# Altium footprint library DF636P396DSA.PcbLib: 1 footprints
Each footprint in its own frame and in the unit in brackets; x right, y up, seen from the top. Pads: shape width x height; smd on the part's side, far side on the other; paste and mask are expansions set on the pad; w line width, h text height; cw(c..) or ccw(c..) is an arc to the next point about the centre after c.
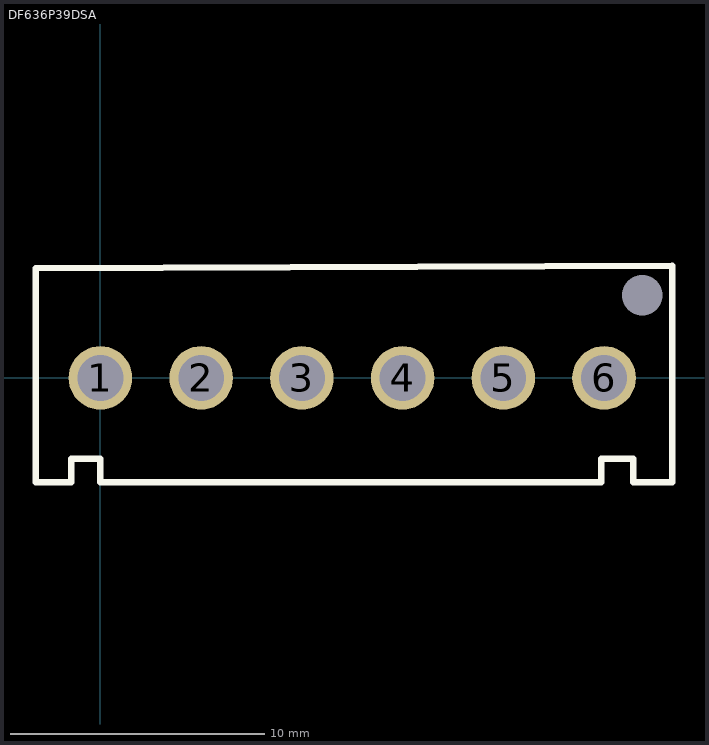
[diagram p0: the footprint, top view; thin cyan lines are the x and y axes]

## DF636P39DSA [mm]
pads (7):
  round 2.5 hole 1.8: 1(0,0) 2(3.96,0) 3(7.92,0) 4(11.88,0) 5(15.84,0) 6(19.8,0)
  round 0 hole 1.6: ""(21.3,3.25)
Top Overlay:
  lines w0.254: -2.54,-4.1 -2.54,4.317 22.479,4.408 22.479,-4.1 20.955,-4.1 20.955,-3.175 19.685,-3.175 19.685,-4.1 0,-4.1 0,-3.175 -1.143,-3.175 -1.143,-4.1 -2.54,-4.1